# EAGLE library part RDA5807 (library FansElectronics-Modul)
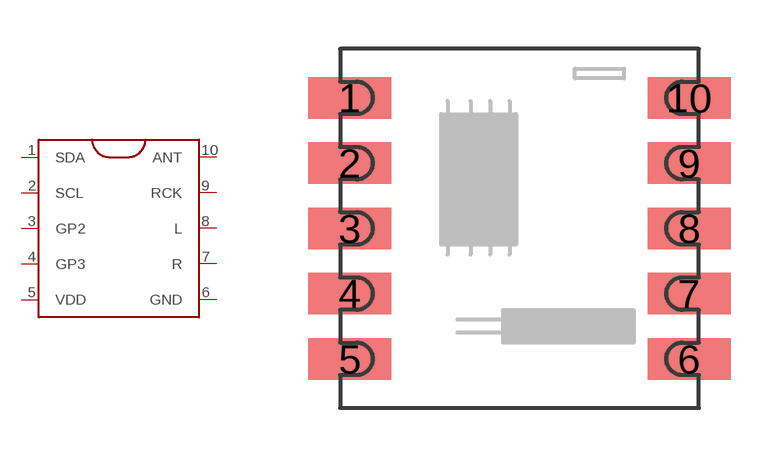
[diagram p0: symbol with the pads of RDA5807; footprint RDA5807]

Designator prefix MOD

## RDA5807  [RDA5807]
1  SDA
2  SCL
3  GP2
4  GP3
5  VDD
6  GND
7  R
8  L
9  RCK
10  ANT

## Footprint RDA5807 (pad centres in mm)
smd 2.54 x 1.27: 1 -4.7,3.5; 2 -4.7,1.5; 3 -4.7,-0.5; 4 -4.7,-2.5; 5 -4.7,-4.5; 6 5.7,-4.5; 7 5.7,-2.5; 8 5.7,-0.5; 9 5.7,1.5; 10 5.7,3.5